# EAGLE library part LTC3122 (library LTC3122)
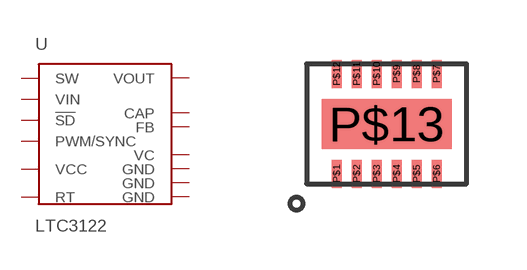
[diagram p0: symbol with the pads of LTC3122EDE#PBF; footprint LTC3122EDE#PBF]

Designator prefix U

## LTC3122 (PROD_ID: LTC3122)  [LTC3122EDE#PBF]
P$1  SW  in
P$2  GND  pwr
P$3  VIN  pwr
P$4  PWM/SYNC  in
P$5  VCC
P$6  RT
P$7  VC
P$8  FB
P$9  !SD  in
P$10  GND  pwr
P$11  VOUT  out
P$12  CAP  pas
P$13  GND  pwr

## Footprint LTC3122EDE#PBF (pad centres in mm)
smd 0.25 x 0.7: P$1 -1.25,-1.25; P$2 -0.75,-1.25; P$3 -0.25,-1.25; P$4 0.25,-1.25; P$5 0.75,-1.25; P$6 1.25,-1.25; P$7 1.25,1.25; P$8 0.75,1.25; P$9 0.25,1.25; P$10 -0.25,1.25; P$11 -0.75,1.25; P$12 -1.25,1.25
smd 3.25 x 1.25: P$13 0,0